# EAGLE library part 6861XX14422_68610514422 (library WR-FPC)
WR-FPC 1.00 mm SMT ZIF Horizontal Bottom Contact KIND PROPERTIES Pitch 1 mm MATERIAL PROPERTIES Insulator Material PPS Contact Material Phosphor Bronze Contact Plating 100 (µ") Tin over 50 (µ") Nickel Contact Type Stamped <https://www.we-online.com/catalog/media/o33099v209%20Family_WR-FPC_68611214422.jpg> Details see: https://www.we-online.com/catalog/en/FPC_1_00_SMT_ZIF_HORIZONTAL_BOTTOM_CONTACT_6861XX14422/ Updated by Ella Wu 2020-08-26 2020(C) Wurth Elektronik
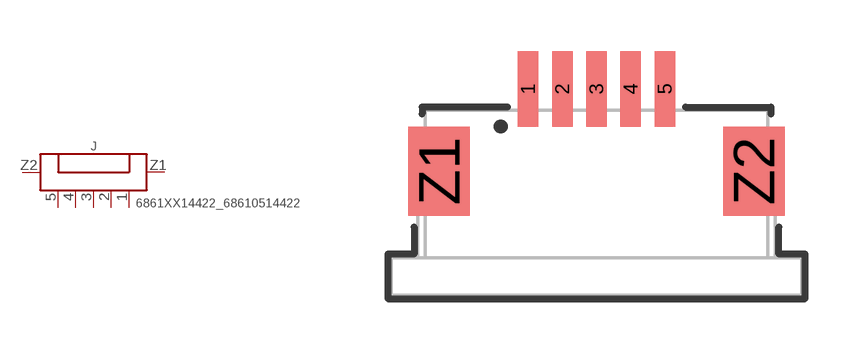
[diagram p135: symbol with the pads of 68610514422; footprint 68610514422]

Designator prefix J

## 6861XX14422_68610514422 (CONTACT-RESISTANCE: 20Ohm; DATASHEET-URL: https://www.we-online.com/catalog/datasheet/68610514422.pdf; IR: 1A; L: 12mm; MATE-WITH: WR-FFC 1.00 mm Flat Flexible Cable Type 1 (Contacts on same side)/ Type 2 (Contacts opposite); PACKAGING: Tape and Reel; PART-NUMBER: 68610514422; PINS: 5; PITCH: 1mm; TYPE: Horizontal; VALUE: 68610514422; WORKING-VOLTAGE: 125V(AC))  [68610514422]
1  1  pas
2  2  pas
3  3  pas
4  4  pas
5  5  pas
Z1  Z1  pas
Z2  Z2  pas

## Footprint 68610514422 (pad centres in mm)
WR-FPC 1.00 mm SMT ZIF Horizontal Bottom Contact, 5 Pins
smd 0.6 x 2.2: 1 -2,3.33; 2 -1,3.33; 3 0,3.33; 4 1,3.33; 5 2,3.33
smd 1.8 x 2.6: Z1 -4.6,0.93; Z2 4.6,0.93